# Altium footprint library Micro_PcbLib.PcbLib: 25 footprints (part 1 of 2)
Each footprint in its own frame and in the unit in brackets; x right, y up, seen from the top. Pads: shape width x height; smd on the part's side, far side on the other; paste and mask are expansions set on the pad; w line width, h text height; cw(c..) or ccw(c..) is an arc to the next point about the centre after c.
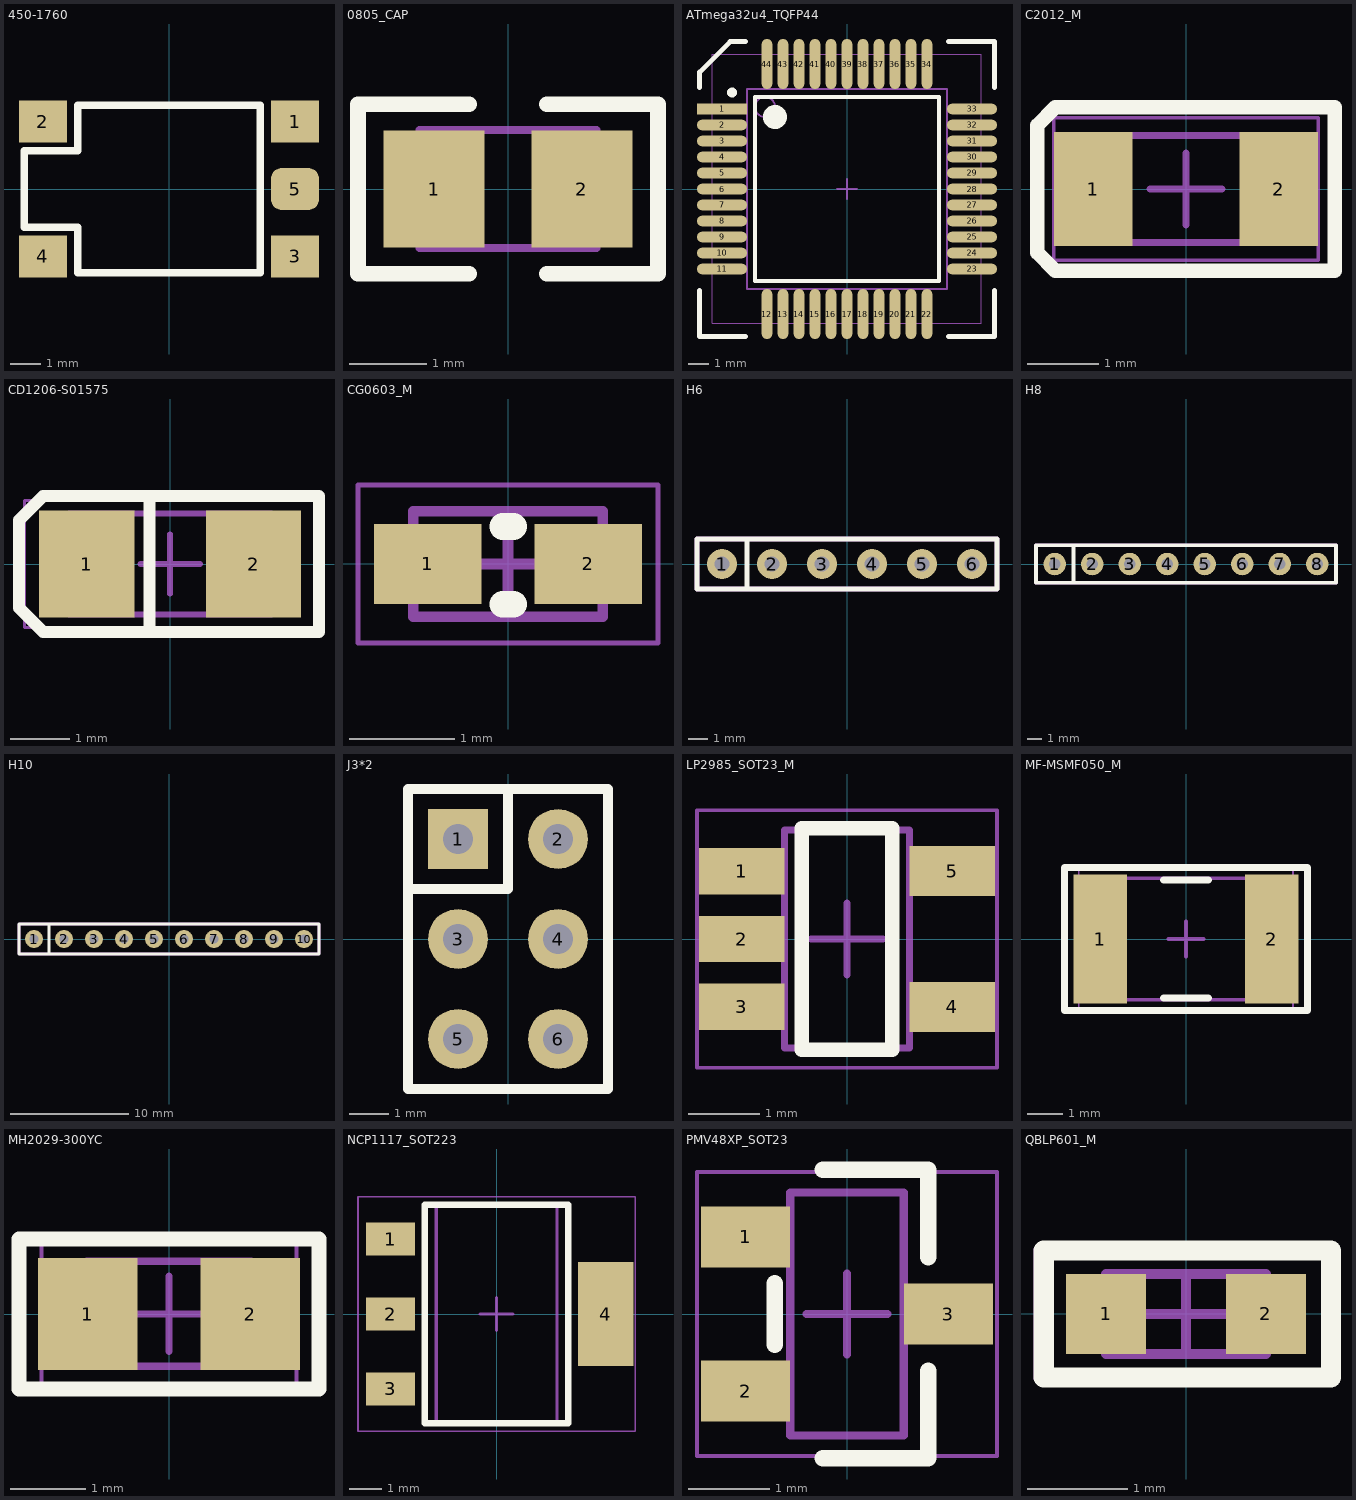
[diagram p0: the footprints below, top view; thin cyan lines are the x and y axes]

## 450-1760 [mm] "Button off-mom"
pads (5):
  rect 1.6x1.4 smd: 1(4.205,2.25) 2(-4.205,2.25) 3(4.205,-2.25) 4(-4.205,-2.25)
  rrect50% 1.6x1.4 smd: 5(4.205,0)
Top Overlay:
  lines w0.254: -4.826,-1.27 -3.048,-1.27 -3.048,-2.794 3.048,-2.794 3.048,2.794 -3.048,2.794 -3.048,1.27 -4.826,1.27 -4.826,-1.27
3D body: height 3.1, standoff 0.1, extent -1.488,-1.497 1.5,1.497
3D body: height 2.59, standoff 0, extent -3.1,-3 3.1,3

## 0805_CAP [mm] "0805 Footprint"
height 1
pads (2):
  rect 1.3x1.5 smd: 1(-0.95,0) 2(0.95,0)
Top Overlay:
  lines w0.2: -0.5,-1.092 -1.93,-1.092 -1.93,1.092 -0.5,1.092 ; 0.5,-1.092 1.93,-1.092 1.93,1.092 0.5,1.092
Mechanical 13:
  lines w0.1: -1.14,-0.76 1.14,-0.76 1.14,0.76 -1.14,0.76 -1.14,-0.76
3D body: height 1.52, standoff 0, extent 0.63,-0.76 1.14,0.76
3D body: height 1.52, standoff 0, extent -1.14,-0.76 -0.63,0.76
3D body: height 1.52, standoff 0, extent -0.63,-0.76 0.63,0.76

## ATmega32u4_TQFP44 [mm] "ATmega32u4_TQFP44_M"
height 1.2
pads (44):
  rect 2.5x0.54 smd: 1(-6.25,4)
  oval 2.5x0.54 smd: 2(-6.25,3.2) 3(-6.25,2.4) 4(-6.25,1.6) 5(-6.25,0.8) 6(-6.25,0) 7(-6.25,-0.8) 8(-6.25,-1.6) 9(-6.25,-2.4) 10(-6.25,-3.2) 11(-6.25,-4) 23(6.25,-4) 24(6.25,-3.2) 25(6.25,-2.4) 26(6.25,-1.6) 27(6.25,-0.8) 28(6.25,0) 29(6.25,0.8) 30(6.25,1.6) 31(6.25,2.4) 32(6.25,3.2) 33(6.25,4)
  oval 0.54x2.5 smd: 12(-4,-6.25) 13(-3.2,-6.25) 14(-2.4,-6.25) 15(-1.6,-6.25) 16(-0.8,-6.25) 17(0,-6.25) 18(0.8,-6.25) 19(1.6,-6.25) 20(2.4,-6.25) 21(3.2,-6.25) 22(4,-6.25) 34(4,6.25) 35(3.2,6.25) 36(2.4,6.25) 37(1.6,6.25) 38(0.8,6.25) 39(0,6.25) 40(-0.8,6.25) 41(-1.6,6.25) 42(-2.4,6.25) 43(-3.2,6.25) 44(-4,6.25)
Top Overlay:
  circle w0.25: c-5.75,4.825 r0.125
  circle w0.6: c-3.6,3.6 r0.3
  lines w0.2: -4.6,-4.6 -4.6,4.6 4.6,4.6 4.6,-4.6 -4.6,-4.6
  lines w0.254: -7.366,-5.08 -7.366,-7.366 -5.08,-7.366 ; -7.366,5.08 -7.366,5.842 -5.842,7.366 -5.08,7.366 ; 5.08,-7.366 7.366,-7.366 7.366,-5.08 ; 5.08,7.366 7.366,7.366 7.366,5.08
Mechanical 13:
  circle w0.1: c-4.1,4.1 r0.5
  lines w0.1: -5,-5 -5,5 5,5 5,-5 -5,-5
Mechanical 15:
  lines w0.05: -6.725,-6.725 -6.725,6.725 6.725,6.725 6.725,-6.725 -6.725,-6.725
  lines w0.1: -0.5,0 0.5,0 ; 0,-0.5 0,0.5
3D body: height 1.2, standoff 0.05, extent -5,-5 5,5

## C2012_M [mm] "C2012X7R1H105K125AE"
height 1.25
pads (2):
  rect 1.1x1.6 smd: 1(-1.3,0) 2(1.3,0)
Top Overlay:
  lines w0.203: 1.143,-1.143 2.083,-1.143 ; 1.143,1.143 2.083,1.143 ; 2.083,-1.143 -1.829,-1.143 -2.083,-0.889 -2.083,0.889 -1.829,1.143 2.083,1.143 ; 2.083,-1.143 2.083,1.143
Mechanical 13:
  lines w0.1: -1.225,-0.75 -1.225,0.75 1.225,0.75 1.225,-0.75 -1.225,-0.75
Mechanical 15:
  lines w0.05: -1.85,-1 -1.85,1 1.85,1 1.85,-1 -1.85,-1
  lines w0.1: -0.5,0 0.5,0 ; 0,-0.5 0,0.5
3D body: height 1.25, standoff 0, extent -0.925,-0.75 0.925,0.75
3D body: height 1.25, standoff 0, extent -1.225,-0.75 -0.925,0.75
3D body: height 1.25, standoff 0, extent 0.925,-0.75 1.225,0.75

## CD1206-S01575 [mm] "Switching Chip Diode, 2-Leads, Body 3.20x1.50mm, IPC Medium Density"
height 0.92
pads (2):
  rect 1.6x1.8 smd: 1(-1.4,0) 2(1.4,0)
Top Overlay:
  lines w0.203: -2.54,-0.737 -2.134,-1.143 ; -2.54,-0.711 -2.54,0.737 -2.134,1.143 2.5,1.143 ; -2.108,-1.143 2.5,-1.143 ; -0.35,-1.143 -0.35,1.143 ; 1.143,-1.143 2.5,-1.143 ; 1.143,1.143 2.5,1.143 ; 2.5,-1.143 2.5,1.143
Mechanical 13:
  rectangle: -1.7,-0.85 -1.243,0.85
  lines w0.1: -1.7,-0.85 1.7,-0.85 1.7,0.85 -1.7,0.85 -1.7,-0.85
Mechanical 15:
  lines w0.05: -2.45,-1.067 2.45,-1.067 2.45,1.067 -2.45,1.067 -2.45,-1.067
  lines w0.1: -0.5,0 0.5,0 ; 0,-0.5 0,0.5
3D body: height 0.92, standoff 0, extent -1.7,-0.85 1.7,0.85

## CG0603_M [mm] "CG0603_M"
height 0.55
pads (2):
  rect 1.02x0.76 smd: 1(-0.76,0) 2(0.76,0)
Top Overlay:
  lines w0.254: -0.051,-0.381 0.051,-0.381 ; -0.051,0.356 0.051,0.356
Mechanical 13:
  lines w0.1: -0.9,-0.5 0.9,-0.5 0.9,0.5 -0.9,0.5 -0.9,-0.5
Mechanical 15:
  lines w0.05: -1.422,-0.75 1.422,-0.75 1.422,0.75 -1.422,0.75 -1.422,-0.75
  lines w0.1: -0.5,0 0.5,0 ; 0,-0.5 0,0.5
3D body: height 0.55, standoff 0, extent 0.6,-0.5 0.9,0.5
3D body: height 0.55, standoff 0, extent -0.9,-0.5 -0.6,0.5
3D body: height 0.55, standoff 0, extent -0.6,-0.5 0.6,0.5

## H6 [mil] "header 6*1"
pads (6):
  round 60 hole 30: 1(-250,0) 2(-150,0) 3(-50,0) 4(50,0) 5(150,0) 6(250,0)
Top Overlay:
  lines w10: -200,-50 -200,50 ; -300,-50 -300,50 300,50 300,-50 -300,-50
Mechanical 15:
  lines w10: -200,50 300,50 ; -300,50 300,50 ; -300,50 -300,-50 300,-50 300,50 ; -300,50 300,50
3D body: height 98.43, standoff 0, extent -300,-50 -199.99,50.01
3D body: height 334.65, standoff -118.11, extent -262.69,-12.76 -237.2,12.78
3D body: height 98.43, standoff 0, extent -200,-50 -99.99,50.01
3D body: height 334.65, standoff -118.11, extent -162.69,-12.76 -137.2,12.78
3D body: height 98.43, standoff 0, extent -100,-50 0.01,50.01
3D body: height 334.65, standoff -118.11, extent -62.69,-12.76 -37.2,12.78
3D body: height 98.43, standoff 0, extent 0,-50 100.01,50.01
3D body: height 334.65, standoff -118.11, extent 37.31,-12.76 62.8,12.78
3D body: height 98.43, standoff 0, extent 100,-50 200.01,50.01
3D body: height 334.65, standoff -118.11, extent 137.31,-12.76 162.8,12.78
3D body: height 98.43, standoff 0, extent 200,-50 300.01,50.01
3D body: height 334.65, standoff -118.11, extent 237.31,-12.76 262.8,12.78

## H8 [mil] "header 8*1"
pads (8):
  round 60 hole 30: 1(-350,0) 2(-250,0) 3(-150,0) 4(-50,0) 5(50,0) 6(150,0) 7(250,0) 8(350,0)
Top Overlay:
  lines w10: -300,-50 -300,50 ; -400,-50 -400,50 400,50 400,-50 -400,-50
Mechanical 15:
  lines w10: -400,-50 -400,50 400,50 400,-50 -400,-50
3D body: height 334.65, standoff -118.11, extent 337.31,-12.76 362.8,12.78
3D body: height 98.43, standoff 0, extent 300,-50 400.01,50.01
3D body: height 334.65, standoff -118.11, extent 237.31,-12.76 262.8,12.78
3D body: height 98.43, standoff 0, extent 200,-50 300.01,50.01
3D body: height 334.65, standoff -118.11, extent 137.31,-12.76 162.8,12.78
3D body: height 98.43, standoff 0, extent 100,-50 200.01,50.01
3D body: height 334.65, standoff -118.11, extent 37.31,-12.76 62.8,12.78
3D body: height 98.43, standoff 0, extent 0,-50 100.01,50.01
3D body: height 334.65, standoff -118.11, extent -62.69,-12.76 -37.2,12.78
3D body: height 98.43, standoff 0, extent -100,-50 0.01,50.01
3D body: height 334.65, standoff -118.11, extent -162.69,-12.76 -137.2,12.78
3D body: height 98.43, standoff 0, extent -200,-50 -99.99,50.01
3D body: height 334.65, standoff -118.11, extent -262.69,-12.76 -237.2,12.78
3D body: height 98.43, standoff 0, extent -300,-50 -199.99,50.01
3D body: height 334.65, standoff -118.11, extent -362.69,-12.76 -337.2,12.78
3D body: height 98.43, standoff 0, extent -400,-50 -299.99,50.01

## H10 [mil] "header 10*1"
pads (10):
  round 60 hole 30: 1(-450,0) 2(-350,0) 3(-250,0) 4(-150,0) 5(-50,0) 6(50,0) 7(150,0) 8(250,0) 9(350,0) 10(450,0)
Top Overlay:
  lines w10: -400,-50 -400,50 ; -500,-50 -500,50 500,50 500,-50 -500,-50
Mechanical 15:
  lines w10: -500,-50 -500,50 500,50 500,-50 -500,-50
3D body: height 334.65, standoff -118.11, extent 437.31,-12.76 462.8,12.78
3D body: height 98.43, standoff 0, extent 400,-50 500.01,50.01
3D body: height 334.65, standoff -118.11, extent 337.31,-12.76 362.8,12.78
3D body: height 98.43, standoff 0, extent 300,-50 400.01,50.01
3D body: height 334.65, standoff -118.11, extent 237.31,-12.76 262.8,12.78
3D body: height 98.43, standoff 0, extent 200,-50 300.01,50.01
3D body: height 334.65, standoff -118.11, extent 137.31,-12.76 162.8,12.78
3D body: height 98.43, standoff 0, extent 100,-50 200.01,50.01
3D body: height 334.65, standoff -118.11, extent 37.31,-12.76 62.8,12.78
3D body: height 98.43, standoff 0, extent 0,-50 100.01,50.01
3D body: height 334.65, standoff -118.11, extent -62.69,-12.76 -37.2,12.78
3D body: height 98.43, standoff 0, extent -100,-50 0.01,50.01
3D body: height 334.65, standoff -118.11, extent -162.69,-12.76 -137.2,12.78
3D body: height 98.43, standoff 0, extent -200,-50 -99.99,50.01
3D body: height 334.65, standoff -118.11, extent -262.69,-12.76 -237.2,12.78
3D body: height 98.43, standoff 0, extent -300,-50 -199.99,50.01
3D body: height 334.65, standoff -118.11, extent -362.69,-12.76 -337.2,12.78
3D body: height 98.43, standoff 0, extent -400,-50 -299.99,50.01
3D body: height 98.43, standoff 0, extent -500,-50 -399.99,50.01
3D body: height 334.65, standoff -118.11, extent -462.69,-12.76 -437.2,12.78

## J3*2 [mil] "AVR ISP pinouts 6 pin"
pads (6):
  rect 60x60 hole 30: 1(-50,100)
  round 60 hole 30: 2(50,100) 3(-50,0) 4(50,0) 5(-50,-100) 6(50,-100)
Top Overlay:
  lines w10: -100,50 0,50 0,150 ; -100,-150 -100,150 100,150 100,-150 -100,-150
3D body: height 98.43, standoff 0, extent -100,50 0.01,150
3D body: height 334.65, standoff -118.11, extent -62.69,87.23 -37.2,112.77
3D body: height 98.43, standoff 0, extent 0,50 100.01,150
3D body: height 334.65, standoff -118.11, extent 37.31,87.23 62.8,112.77
3D body: height 98.43, standoff 0, extent 0,-50 100.01,50
3D body: height 334.65, standoff -118.11, extent 37.31,-12.77 62.8,12.77
3D body: height 98.43, standoff 0, extent 0,-150 100.01,-50
3D body: height 334.65, standoff -118.11, extent 37.31,-112.77 62.8,-87.23
3D body: height 98.43, standoff 0, extent -100,-150 0.01,-50
3D body: height 334.65, standoff -118.11, extent -62.69,-112.77 -37.2,-87.23
3D body: height 98.43, standoff 0, extent -100,-50 0.01,50
3D body: height 334.65, standoff -118.11, extent -62.69,-12.77 -37.2,12.77

## LP2985_SOT23_M [mm] "LP2985_SOT23_M"
height 1.45
pads (5):
  rect 1.2x0.65 smd: 1(-1.475,0.95) 2(-1.475,0) 3(-1.475,-0.95)
  rect 1.2x0.7 smd: 4(1.475,-0.95) 5(1.475,0.95)
Top Overlay:
  lines w0.203: -0.635,-1.55 0.635,-1.55 0.635,1.55 -0.635,1.55 -0.635,-1.55
Mechanical 13:
  lines w0.1: -0.875,-1.525 -0.875,1.525 0.875,1.525 0.875,-1.525 -0.875,-1.525
Mechanical 15:
  lines w0.05: -2.1,-1.8 -2.1,1.8 2.1,1.8 2.1,-1.8 -2.1,-1.8
  lines w0.1: -0.5,0 0.5,0 ; 0,-0.5 0,0.5
3D body: height 1.45, standoff 0.15, extent -0.875,-1.525 0.875,1.525

## MF-MSMF050_M [mm] "MF-MSMF050_M"
height 0.85
pads (2):
  rect 1.5x3.6 smd: 1(-2.4,0) 2(2.4,0)
Top Overlay:
  lines w0.2: -0.635,-1.651 0.635,-1.651 ; -0.635,1.651 0.635,1.651
  lines w0.203: -3.4,-2 -3.4,2 3.4,2 3.4,-2 -3.4,-2
Mechanical 13:
  lines w0.1: -2.365,-1.705 -2.365,1.705 2.365,1.705 2.365,-1.705 -2.365,-1.705
Mechanical 15:
  lines w0.05: -3,-2 -3,2 3,2 3,-2 -3,-2
  lines w0.1: -0.5,0 0.5,0 ; 0,-0.5 0,0.5
3D body: height 0.85, standoff 0, extent -2.015,-1.705 2.015,1.705
3D body: height 0.85, standoff 0, extent -2.365,-1.705 -2.015,1.705
3D body: height 0.85, standoff 0, extent 2.015,-1.705 2.365,1.705

## MH2029-300YC [mm] "Ferrite bead 0805"
height 1.1
pads (2):
  rect 1.33x1.5 smd: 1(-1.085,0) 2(1.085,0)
Top Overlay:
  lines w0.203: -2,-1 -2,1 2,1 2,-1 -2,-1
Mechanical 13:
  lines w0.1: -1.1,-0.7 -1.1,0.7 1.1,0.7 1.1,-0.7 -1.1,-0.7
Mechanical 15:
  lines w0.05: -1.7,-1 -1.7,1 1.7,1 1.7,-1 -1.7,-1
  lines w0.1: -0.5,0 0.5,0 ; 0,-0.5 0,0.5
3D body: height 1.1, standoff 0, extent -0.6,-0.7 0.6,0.7
3D body: height 1.1, standoff 0, extent -1.1,-0.7 -0.6,0.7
3D body: height 1.1, standoff 0, extent 0.6,-0.7 1.1,0.7

## NCP1117_SOT223 [mm] "NCP1117_SOT223_M"
height 1.8
pads (4):
  rect 1.5x1 smd: 1(-3.25,2.3) 2(-3.25,0) 3(-3.25,-2.3)
  rect 1.7x3.2 smd: 4(3.35,0)
Top Overlay:
  lines w0.2: -2.2,-3.35 -2.2,3.35 2.2,3.35 2.2,-3.35 -2.2,-3.35
Mechanical 13:
  lines w0.1: -1.85,-3.35 -1.85,3.35 1.85,3.35 1.85,-3.35 -1.85,-3.35
Mechanical 15:
  lines w0.05: -4.25,-3.6 -4.25,3.6 4.25,3.6 4.25,-3.6 -4.25,-3.6
  lines w0.1: -0.5,0 0.5,0 ; 0,-0.5 0,0.5
3D body: height 1.8, standoff 0.02, extent -1.85,-3.35 1.85,3.35

## PMV48XP_SOT23 [mm] "PMV48XP_SOT23_M"
height 1.1
pads (3):
  rect 1.1x0.75 smd: 1(-1.25,0.95) 2(-1.25,-0.95) 3(1.25,0)
Top Overlay:
  lines w0.203: -0.889,-0.381 -0.889,0.381 ; -0.3,-1.778 1,-1.778 1,-0.7 ; -0.3,1.778 1,1.778 1,0.7
Mechanical 13:
  lines w0.1: -0.7,-1.5 -0.7,1.5 0.7,1.5 0.7,-1.5 -0.7,-1.5
Mechanical 15:
  lines w0.05: -1.85,-1.75 -1.85,1.75 1.85,1.75 1.85,-1.75 -1.85,-1.75
  lines w0.1: -0.5,0 0.5,0 ; 0,-0.5 0,0.5
3D body: height 1.1, standoff 0.1, extent -0.7,-1.5 0.7,1.5

## QBLP601_M [mm] "QBLP601_M"
height 0.6
pads (2):
  rect 0.8x0.8 smd: 1(-0.8,0) 2(0.8,0)
Top Overlay:
  lines w0.203: -1.422,-0.635 1.45,-0.635 1.45,0.635 -1.422,0.635 -1.422,-0.61
Mechanical 13:
  lines w0.1: -0.8,-0.4 -0.8,0.4 0.8,0.4 0.8,-0.4 -0.8,-0.4
Mechanical 15:
  lines w0.05: -1.5,-0.65 -1.5,0.65 1.5,0.65 1.5,-0.65 -1.5,-0.65
  lines w0.1: -0.4,0 0.4,0 ; 0,-0.4 0,0.4
3D body: height 0.6, standoff 0, extent -0.55,-0.4 0.55,0.4
3D body: height 0.6, standoff 0, extent -0.8,-0.4 -0.55,0.4
3D body: height 0.6, standoff 0, extent 0.55,-0.4 0.8,0.4